# EAGLE library part ATTINY*4 (library atmel)
8-bit AVR tiny Microcontroller Status obsolete/discontinued aktiv aktiv aktiv ATtiny24(V) ATtiny44(V) ATtiny84(V) ATtiny24A ATtiny44A ATtiny84A General purpose working registers 32 SRAM 128 B 256 B 512 B 128 B 256 B 512 B Program flash memory 2 kB 4 kB 8 kB 2 kB 4 kB 8 kB EEPROM 128 B 256 B 512 B 128 B 256 B 512 B 16-bit Timer/Counter 1 8-bit Timer/Counter 1 USART 1 ADC channels 8 ADC resolution 10 bit AC 1 Watchdog 1 General purpose I/O 12 External interrupts 12 Operating voltage 1.8 ... 5.5 V for ATtiny#4V 1.8 ... 5.5 V 2.7 ... 5.5 V for ATtiny#4 Speed grade 0 ... 4 MHz @ 1.8 ... 5.5 V for ATtiny#4V 0 ... 4 MHz @ 1.8 ... 5.5 V 0 ... 10 MHz @ 2.7 ... 5.5 V for ATtiny#4V 0 ... 10 MHz @ 2.7 ... 5.5 V 0 ... 10 MHz @ 2.7 ... 5.5 V for ATtiny#4 0 ... 20 MHz @ 4.5 ... 5.5 V 0 ... 20 MHz @ 4.5 ... 5.5 V for ATtiny#4 Clock options calibrated internal 8 MHz oscillator external crystal oscillator / ceramic resonator external 32.768 kHz low-frequency crystal oscillator internal 128 kHz oscillator external clock input
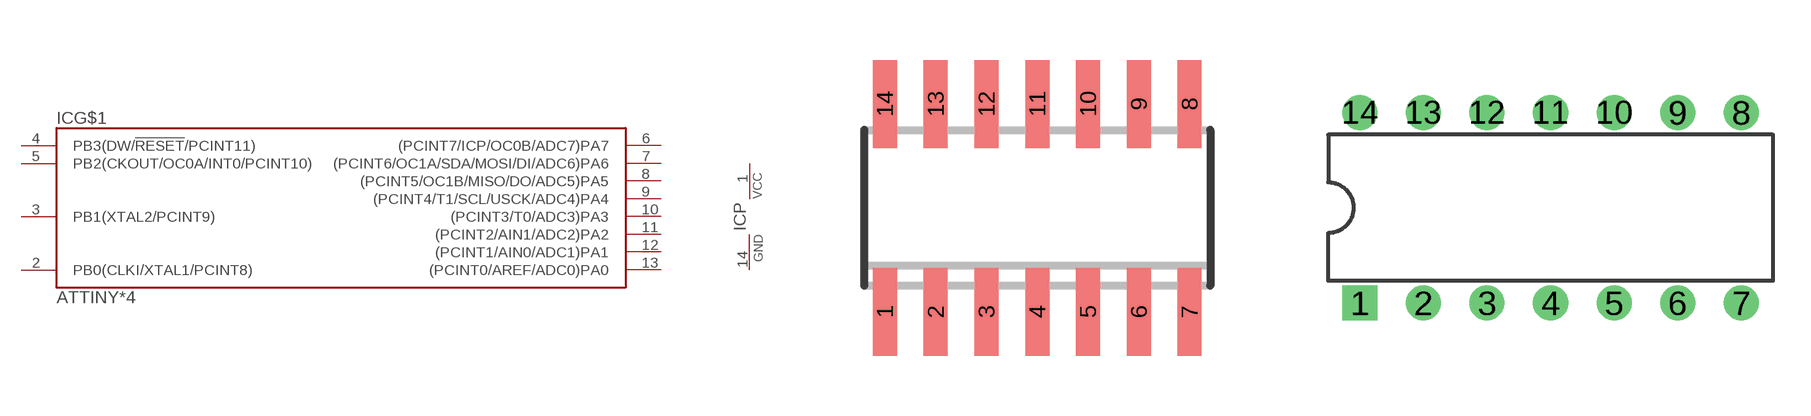
[diagram p78: symbol with the pads of SO14; footprints SO14, DIL14]

Designator prefix IC; gates G$1=TINY84 P=PWR

## ATTINY24-20SSU, ATTINY44-20SSU, ATTINY84-20SSU  [SO14]
1  P:VCC  pwr
2  G$1:PB0(CLKI/XTAL1/PCINT8)
3  G$1:PB1(XTAL2/PCINT9)
4  G$1:PB3(DW/!RESET!/PCINT11)
5  G$1:PB2(CKOUT/OC0A/INT0/PCINT10)
6  G$1:(PCINT7/ICP/OC0B/ADC7)PA7
7  G$1:(PCINT6/OC1A/SDA/MOSI/DI/ADC6)PA6
8  G$1:(PCINT5/OC1B/MISO/DO/ADC5)PA5
9  G$1:(PCINT4/T1/SCL/USCK/ADC4)PA4
10  G$1:(PCINT3/T0/ADC3)PA3
11  G$1:(PCINT2/AIN1/ADC2)PA2
12  G$1:(PCINT1/AIN0/ADC1)PA1
13  G$1:(PCINT0/AREF/ADC0)PA0
14  P:GND  pwr

## ATTINY24-20PU, ATTINY44-20PU, ATTINY84-20PU  [DIL14]
Pads as for SO14

## ATTINY24-20MU, ATTINY44-20MU, ATTINY84-20MU  [QFN20_4X4_0.50]
1  G$1:(PCINT4/T1/SCL/USCK/ADC4)PA4
2  G$1:(PCINT3/T0/ADC3)PA3
3  G$1:(PCINT2/AIN1/ADC2)PA2
4  G$1:(PCINT1/AIN0/ADC1)PA1
5  G$1:(PCINT0/AREF/ADC0)PA0
8  P:GND  pwr
9  P:VCC  pwr
11  G$1:PB0(CLKI/XTAL1/PCINT8)
12  G$1:PB1(XTAL2/PCINT9)
13  G$1:PB3(DW/!RESET!/PCINT11)
14  G$1:PB2(CKOUT/OC0A/INT0/PCINT10)
15  G$1:(PCINT7/ICP/OC0B/ADC7)PA7
16  G$1:(PCINT6/OC1A/SDA/MOSI/DI/ADC6)PA6
20  G$1:(PCINT5/OC1B/MISO/DO/ADC5)PA5

## ATTINY24V-10SSU, ATTINY44V-10SSU, ATTINY84V-10SSU  [SO14]
Pads as for SO14

## ATTINY24V-10PU, ATTINY44V-10PU, ATTINY84V-10PU  [DIL14]
Pads as for SO14

## ATTINY24V-10MU, ATTINY44V-10MU, ATTINY84V-10MU  [QFN20_4X4_0.50]
Pads as for QFN20_4X4_0.50

## ATTINY24A-SSU, ATTINY44A-SSU, ATTINY84A-SSU  [SO14]
Pads as for SO14

## ATTINY24A-SSN, ATTINY44A-SSN, ATTINY84A-SSN  [SO14]
Pads as for SO14

## ATTINY24A-SSF, ATTINY44A-SSF, ATTINY84A-SSF  [SO14]
Pads as for SO14

## ATTINY24A-PU, ATTINY44A-PU, ATTINY84A-PU  [DIL14]
Pads as for SO14

## ATTINY24A-MU, ATTINY44A-MU, ATTINY84A-MU  [QFN20_4X4_0.50]
Pads as for QFN20_4X4_0.50

## ATTINY24A-MF, ATTINY44A-MF, ATTINY84A-MF  [QFN20_4X4_0.50]
Pads as for QFN20_4X4_0.50

## ATTINY24A-MMH, ATTINY44A-MMH, ATTINY84A-MMH  [QFN20_3X3_0.45]
Pads as for QFN20_4X4_0.50

## ATTINY24A-CCU, ATTINY44A-CCU, ATTINY84A-CCU  [15CC1]
A2  G$1:(PCINT5/OC1B/MISO/DO/ADC5)PA5
A3  G$1:(PCINT6/OC1A/SDA/MOSI/DI/ADC6)PA6
A4  G$1:PB2(CKOUT/OC0A/INT0/PCINT10)
B1  G$1:(PCINT4/T1/SCL/USCK/ADC4)PA4
B2  G$1:(PCINT7/ICP/OC0B/ADC7)PA7
B3  G$1:PB1(XTAL2/PCINT9)
B4  G$1:PB3(DW/!RESET!/PCINT11)
C1  G$1:(PCINT3/T0/ADC3)PA3
C2  G$1:(PCINT2/AIN1/ADC2)PA2
C3  G$1:(PCINT1/AIN0/ADC1)PA1
C4  G$1:PB0(CLKI/XTAL1/PCINT8)
D1  G$1:(PCINT0/AREF/ADC0)PA0
D2  P:GND  pwr
D3  P:GND  pwr
D4  P:VCC  pwr

## Footprint SO14 (pad centres in mm)
Small Outline IC, 150mil body width, 50mil lead pitch package/pad dimensions according to IPC-SM-782, RLP No. 302A JEDEC: MS-012 AB IPC: SO14 other notations: SO-14, SOIC14, SOIC-14
smd 0.6 x 2.2: 1 -3.81,-2.6; 2 -2.54,-2.6; 3 -1.27,-2.6; 4 0,-2.6; 5 1.27,-2.6; 6 2.54,-2.6; 7 3.81,-2.6; 8 3.81,2.6; 9 2.54,2.6; 10 1.27,2.6; 11 0,2.6; 12 -1.27,2.6; 13 -2.54,2.6; 14 -3.81,2.6

## Footprint DIL14 (pad centres in mm)
DIL package, pin row distance 300mil
drill 0.8 pad 1.4 square: 1 -7.62,-3.81
drill 0.8 pad 1.4: 2 -5.08,-3.81; 3 -2.54,-3.81; 4 0,-3.81; 5 2.54,-3.81; 6 5.08,-3.81; 7 7.62,-3.81; 8 7.62,3.81; 9 5.08,3.81; 10 2.54,3.81; 11 0,3.81; 12 -2.54,3.81; 13 -5.08,3.81; 14 -7.62,3.81

## Footprint QFN20_4X4_0.50 (pad centres in mm)
20-Lead Plastic QFN, 4mm x 4mm body, 0.5mm lead pitch, exposed pad 0.45 mm lead length JEDEC: MO-220 ATMEL Code: 20M1, ZFV other notations: MFL20
smd 0.9 x 0.3: 1 -2,1; 2 -2,0.5; 3 -2,0; 4 -2,-0.5; 5 -2,-1; 11 2,-1; 12 2,-0.5; 13 2,0; 14 2,0.5; 15 2,1
smd 0.3 x 0.9: 6 -1,-2; 7 -0.5,-2; 8 0,-2; 9 0.5,-2; 10 1,-2; 16 1,2; 17 0.5,2; 18 0,2; 19 -0.5,2; 20 -1,2
smd 2.4 x 2.4: EXP 0,0

## Footprint QFN20_3X3_0.45 (pad centres in mm)
20-Lead Plastic QFN, 3mm x 3mm body, 0.45mm lead pitch, exposed pad ATMEL Code: 20M2, ZFC
smd 0.7 x 0.25: 1 -1.55,0.9; 5 -1.55,-0.9; 11 1.55,-0.9; 15 1.55,0.9
smd 0.8 x 0.25: 2 -1.5,0.45; 3 -1.5,0; 4 -1.5,-0.45; 12 1.5,-0.45; 13 1.5,0; 14 1.5,0.45
smd 0.25 x 0.7: 6 -0.9,-1.55; 10 0.9,-1.55; 16 0.9,1.55; 20 -0.9,1.55
smd 0.25 x 0.8: 7 -0.45,-1.5; 8 0,-1.5; 9 0.45,-1.5; 17 0.45,1.5; 18 0,1.5; 19 -0.45,1.5
smd 1.6 x 1.6: EXP 0,0

## Footprint 15CC1 (pad centres in mm)
fine-pitch Ball Grid Array, 3mm x 3mm body, 0.65mm ball pitch ATMEL Code: 15CC1, CBC
smd 0.25 x 0.25: A2 -0.325,0.975; A3 0.325,0.975; A4 0.975,0.975; B1 -0.975,0.325; B2 -0.325,0.325; B3 0.325,0.325; B4 0.975,0.325; C1 -0.975,-0.325; C2 -0.325,-0.325; C3 0.325,-0.325; C4 0.975,-0.325; D1 -0.975,-0.975; D2 -0.325,-0.975; D3 0.325,-0.975; D4 0.975,-0.975